# Altium footprint library IND_ATCA-08-750M-V.PcbLib: 1 footprints
Each footprint in its own frame and in the unit in brackets; x right, y up, seen from the top. Pads: shape width x height; smd on the part's side, far side on the other; paste and mask are expansions set on the pad; w line width, h text height; cw(c..) or ccw(c..) is an arc to the next point about the centre after c.
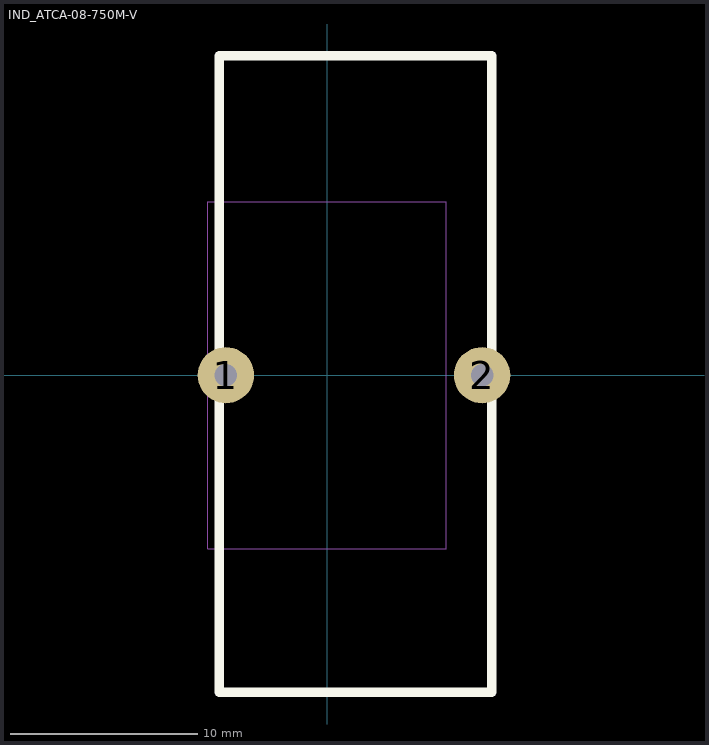
[diagram p0: the footprint, top view; thin cyan lines are the x and y axes]

## IND_ATCA-08-750M-V [mm]
height 18
pads (2):
  round 3 hole 1.2: 1(-5.4,0) 2(8.255,0)
Top Overlay:
  lines w0.508: 8.763,-0.018 8.763,-16.891 -5.75,-16.891 -5.75,0 -5.75,17.018 8.763,17.018 ; 8.763,0 8.763,17
Mechanical 13:
  lines w0.127: -5.75,-16.891 -5.75,17.018 8.763,17.018 8.763,-16.891 -5.75,-16.891
Mechanical 15:
  lines w0.05: -6.354,-9.25 6.354,-9.25 6.354,9.25 -6.354,9.25 -6.354,-9.25